# EAGLE library part STC8H8K64U_45I_LQFP64_KXN (library kxn_Standard_MCU)
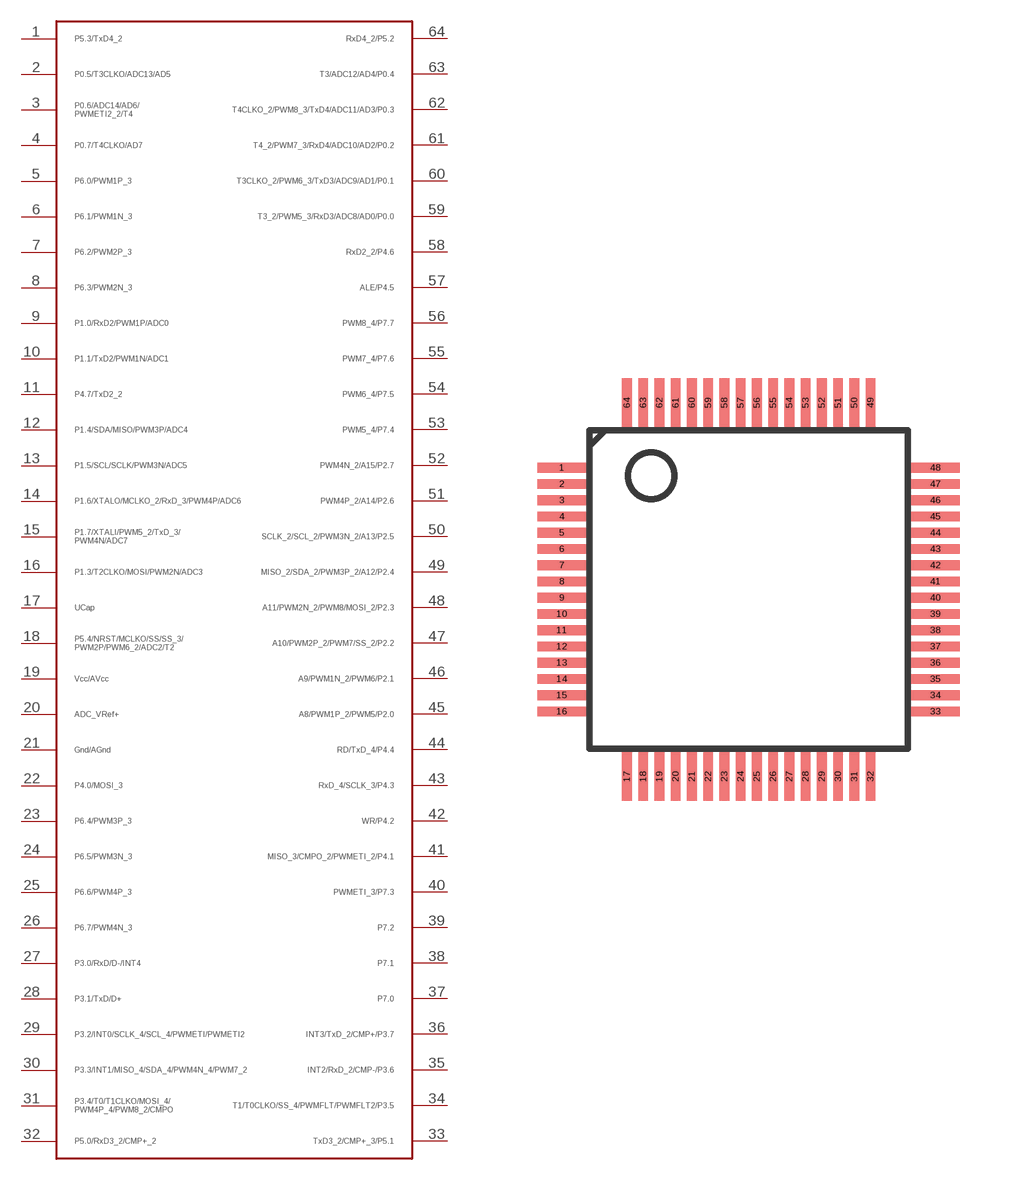
[diagram p12: symbol with the pads of LQFP64S_STC; footprint LQFP64S_STC]

Designator prefix -

## STC8H8K64U_45I_LQFP64_KXN_FULL  [LQFP64S_STC]
1  P$1_P5.3
2  P$2_P0.5
3  P$3_0.6
4  P$4_0.7
5  P$5_6.0
6  P$6_6.1
7  P$7_6.2
8  P$8_6.3
9  P$9_1.0
10  P$10_1.1
11  P$11_4.7
12  P$12_1.4
13  P$13_1.5
14  P$14_1.6
15  P$15_1.7
16  P$16_1.3
17  P$17_UCAP
18  P$18_5.4
19  P$19_VCC/AVCC  pwr
20  P$20_ADC_VREF+  pwr
21  P$21_GND/AGND  sup
22  P$22_4.0
23  P$23_6.4
24  P$24_6.5
25  P$25_6.6
26  P$26_6.7
27  P$27_3.0
28  P$28_3.1
29  P$29_3.2
30  P$30_3.3
31  P$31_3.4
32  P$32_5.0
33  P$33_5.1
34  P$34_3.5
35  P$35_3.6
36  P$36_3.7
37  P$37_7.0
38  P$38_7.1
39  P$39_7.2
40  P$40_7.3
41  P$41_4.1
42  P$42_4.2
43  P$43_4.3
44  P$44_4.4
45  P$45_2.0
46  P$46_2.1
47  P$47_2.2
48  P$48_2.3
49  P$49_2.4
50  P$50_2.5
51  P$51_2.6
52  P$52_2.7
53  P$53_7.4
54  P$54_7.5
55  P$55_7.6
56  P$56_7.7
57  P$57_4.5
58  P$58_4.6
59  P$59_0.0
60  P$60_0.1
61  P$61_0.2
62  P$62_0.3
63  P$63_0.4
64  P$64_5.2

## Footprint LQFP64S_STC (pad centres in mm)
LQFP64S_STC Auto generated by make-symbol-device-package-bsdl.ulp Rev. 44 https://datasheet.lcsc.com/lcsc/2212021230_STC-Micro-STC8H8K64U-45I-LQFP64_C3013146.pdf 4.10 LQFP64S ... (12mm*12mm) dPin: 0.5mm
smd 1.5 x 0.3: 1 -5.75,3.75; 2 -5.75,3.25; 3 -5.75,2.75; 4 -5.75,2.25; 5 -5.75,1.75; 6 -5.75,1.25; 7 -5.75,0.75; 8 -5.75,0.25; 9 -5.75,-0.25; 10 -5.75,-0.75; 11 -5.75,-1.25; 12 -5.75,-1.75; 13 -5.75,-2.25; 14 -5.75,-2.75; 15 -5.75,-3.25; 16 -5.75,-3.75; 33 5.75,-3.75; 34 5.75,-3.25; 35 5.75,-2.75; 36 5.75,-2.25; 37 5.75,-1.75; 38 5.75,-1.25; 39 5.75,-0.75; 40 5.75,-0.25; 41 5.75,0.25; 42 5.75,0.75; 43 5.75,1.25; 44 5.75,1.75; 45 5.75,2.25; 46 5.75,2.75; 47 5.75,3.25; 48 5.75,3.75
smd 0.3 x 1.5: 17 -3.75,-5.75; 18 -3.25,-5.75; 19 -2.75,-5.75; 20 -2.25,-5.75; 21 -1.75,-5.75; 22 -1.25,-5.75; 23 -0.75,-5.75; 24 -0.25,-5.75; 25 0.25,-5.75; 26 0.75,-5.75; 27 1.25,-5.75; 28 1.75,-5.75; 29 2.25,-5.75; 30 2.75,-5.75; 31 3.25,-5.75; 32 3.75,-5.75; 49 3.75,5.75; 50 3.25,5.75; 51 2.75,5.75; 52 2.25,5.75; 53 1.75,5.75; 54 1.25,5.75; 55 0.75,5.75; 56 0.25,5.75; 57 -0.25,5.75; 58 -0.75,5.75; 59 -1.25,5.75; 60 -1.75,5.75; 61 -2.25,5.75; 62 -2.75,5.75; 63 -3.25,5.75; 64 -3.75,5.75